# Altium schematic symbol library MX29LV800BTC-90G.SchLib: 1 symbol
Pins are listed as number, name and electrical type; pins without a type are passive.

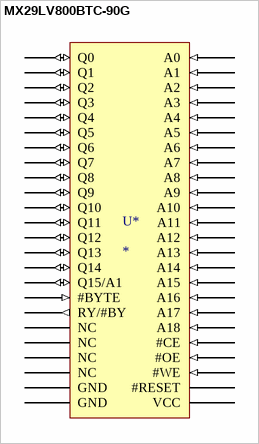
[diagram p0: symbol MX29LV800BTC-90G]

## MX29LV800BTC-90G
designator U*
footprint MX29LV800BTC-90G (TSSOP, 48-Leads, Body 12.00x18.40mm, Pitch 0.50mm, IPC Medium Density)
pins: 1 A15 (in), 2 A14 (in), 3 A13 (in), 4 A12 (in), 5 A11 (in), 6 A10 (in), 7 A9 (in), 8 A8 (in), 9 NC, 10 NC, 11 #WE (in), 12 #RESET, 13 NC, 14 NC, 15 RY/#BY (out), 16 A18 (in), 17 A17 (in), 18 A7 (in), 19 A6 (in), 20 A5 (in), 21 A4 (in), 22 A3 (in), 23 A2 (in), 24 A1 (in), 25 A0 (in), 26 #CE (in), 27 GND, 28 #OE (in), 29 Q0 (io), 30 Q8 (io), 31 Q1 (io), 32 Q9 (io), 33 Q2 (io), 34 Q10 (io), 35 Q3 (io), 36 Q11 (io), 37 VCC, 38 Q4 (io), 39 Q12 (io), 40 Q5 (io), 41 Q13 (io), 42 Q6 (io), 43 Q14 (io), 44 Q7 (io), 45 Q15/A1 (io), 46 GND, 47 #BYTE (in), 48 A16 (in)